# Altium integrated library 74LVC1G3157GW_125.IntLib: 1 symbol
Pins are listed as number, name and electrical type; pins without a type are passive.

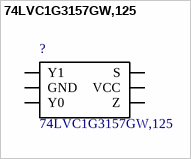
[diagram p0: symbol 74LVC1G3157GW,125]

## 74LVC1G3157GW,125
designator ?
74LVC1G3157 - 2-channel analog multiplexer/demultiplexer; MF: Nexperia USA; SnapEDA_Link: https://www.snapeda.com/parts/74LVC1G3157GW%2C125/Nexperia%20USA%20Inc./view-part/?ref=snap; Availability: Unavailable; Price: None; MP: 74LVC1G3157GW,125; Package: SOT-363 Nexperia; Value: *
footprint SOT363
pins: 1 Y1 (io), 2 GND (power), 3 Y0 (io), 4 Z (io), 5 VCC (power), 6 S (io)